# EAGLE library part SN65HVDA100 (library ICs)
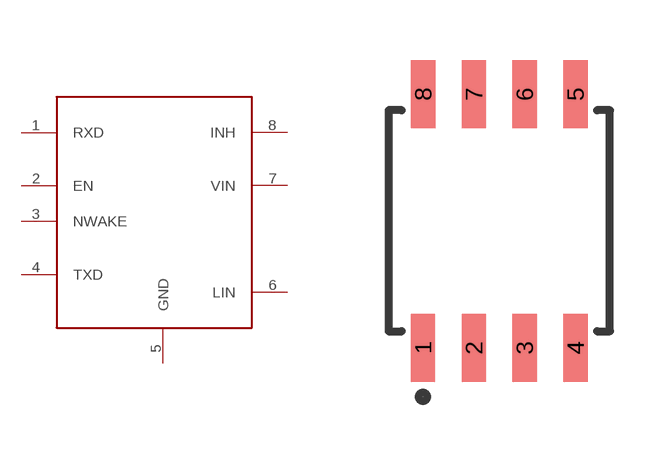
[diagram p32: symbol with the pads of SOIC-8; footprint SOIC-8]

Designator prefix U

## SN65HVDA100 (MFG: TI; MPN: SN65HVDA100-Q1)  [SOIC-8]
1  RXD
2  EN
3  NWAKE
4  TXD
5  GND
6  LIN
7  VIN
8  INH

## Footprint SOIC-8 (pad centres in mm)
8-Pin SOIC 208-mil
smd 0.6 x 1.7: 1 -1.905,-3.175
smd 0.61 x 1.702: 2 -0.635,-3.175; 3 0.635,-3.175; 4 1.905,-3.175; 5 1.905,3.175; 6 0.635,3.175; 7 -0.635,3.175; 8 -1.905,3.175